# Altium footprint library TPSC156K035R0350.PcbLib: 2 footprints
Each footprint in its own frame and in the unit in brackets; x right, y up, seen from the top. Pads: shape width x height; smd on the part's side, far side on the other; paste and mask are expansions set on the pad; w line width, h text height; cw(c..) or ccw(c..) is an arc to the next point about the centre after c.
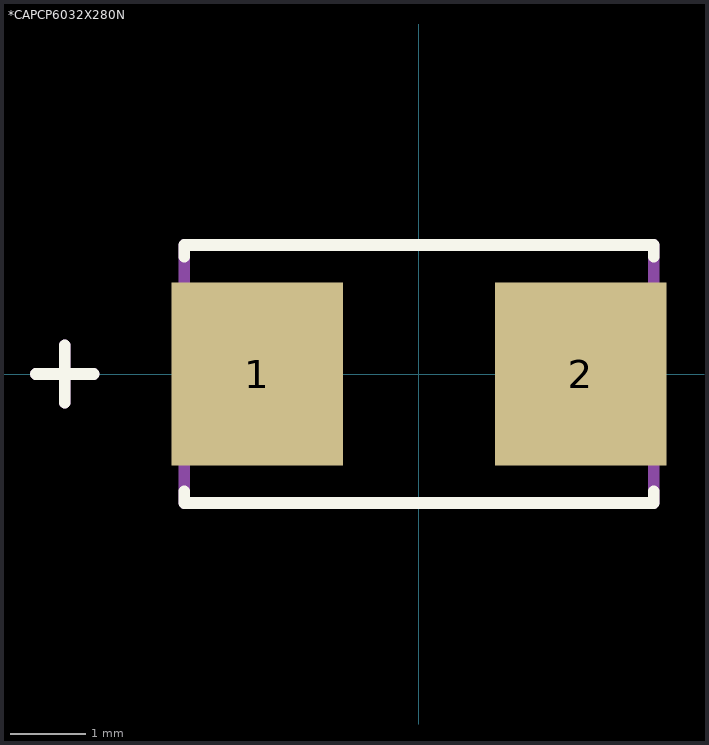
[diagram p0: the footprints below, top view; thin cyan lines are the x and y axes]

## *CAPCP6032X280N [mil]
pads (2):
  rect 89x95 smd: 1(-84,0) 2(84,0)
Top Overlay:
  lines w6: -199,0 -169,0 ; -184,-15 -184,15 ; -122,-61 -122,-67 122,-67 122,-61 ; -122,61 -122,67 122,67 122,61
Mechanical 4:
  lines w6: -122,-67 -122,67 ; -122,-67 122,-67 ; -122,-67 -122,67 ; -122,-67 122,-67 ; -122,67 122,67 ; -122,67 122,67 ; 122,-67 122,67 ; 122,-67 122,67 ; -199,0 -169,0 -199,0 ; -184,-15 -184,15 -184,-15

## PCBComponent_1 [mil]